# Altium integrated library DMP2066UFDE-7.IntLib: 1 symbol
Pins are listed as number, name and electrical type; pins without a type are passive.

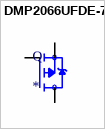
[diagram p0: symbol DMP2066UFDE-7]

## DMP2066UFDE-7
designator Q
P-Channel 20V 6.2A (Ta) 660mW (Ta) Surface Mount U-DFN2020-6 (Type E); MP: DMP2066UFDE-7; MF: Diodes Inc.; SnapEDA_Link: https://www.snapeda.com/parts/DMP2066UFDE-7/Diodes%20Inc./view-part/488338/?ref=snap; Price: None; Availability: Unavailable; Value: *; DigiKey-Purchase-URL: https://snapeda.com/shop?store=DigiKey&id=488338; Package: UDFN-6 Diodes Inc.
footprint MOSFET_DMP2066UFDE-7
pins: 1 D, 2 D, 3 G, 4 S, 5 D, 6 D, 7 S